# EAGLE library part LC4064ZE_XXUMN64 (library lattice_ispMACH4000ZE)
ispMACH 4064ZE ucBGA64 Lattice Semiconductor Corporation - ispMACH 4000ZE Ultra Low Power, Low Cost CPLD Family Generated using Lattice BSDL models: http://www.latticesemi.com/dynamic/index.cfm?fuseaction=view_documents&document_type=36&sloc=01-01-02-01&source=sidebar
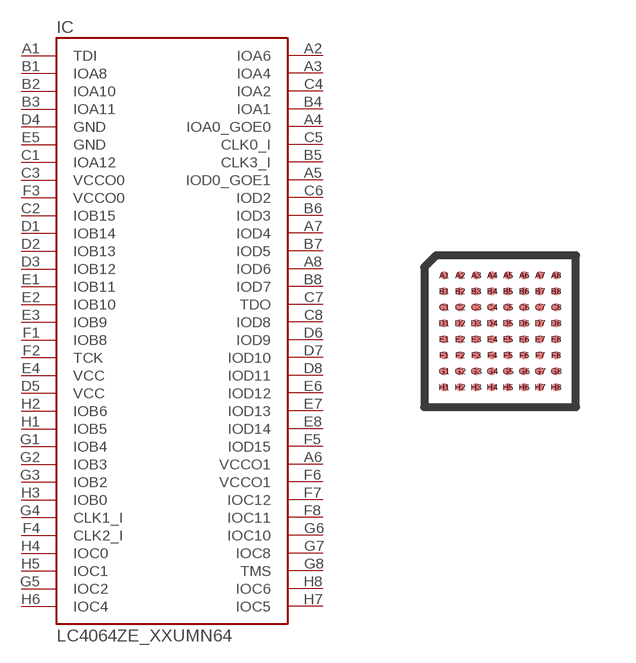
[diagram p12: symbol with the pads of UCBGA64; footprint UCBGA64]

Designator prefix IC

## LC4064ZE_XXUMN64  [UCBGA64]
A1  TDI  in
A2  IOA6
A3  IOA4
A4  IOA0_GOE0
A5  IOD0_GOE1
A6  VCCO1  pwr
A7  IOD4
A8  IOD6
B1  IOA8
B2  IOA10
B3  IOA11
B4  IOA1
B5  CLK3_I  in
B6  IOD3
B7  IOD5
B8  IOD7
C1  IOA12
C2  IOB15
C3  VCCO0  pwr
C4  IOA2
C5  CLK0_I  in
C6  IOD2
C7  TDO  out
C8  IOD8
D1  IOB14
D2  IOB13
D3  IOB12
D4  GND  pwr
D5  VCC  pwr
D6  IOD9
D7  IOD10
D8  IOD11
E1  IOB11
E2  IOB10
E3  IOB9
E4  VCC  pwr
E5  GND  pwr
E6  IOD12
E7  IOD13
E8  IOD14
F1  IOB8
F2  TCK  in
F3  VCCO0  pwr
F4  CLK2_I  in
F5  IOD15
F6  VCCO1  pwr
F7  IOC12
F8  IOC11
G1  IOB4
G2  IOB3
G3  IOB2
G4  CLK1_I  in
G5  IOC2
G6  IOC10
G7  IOC8
G8  TMS  in
H1  IOB5
H2  IOB6
H3  IOB0
H4  IOC0
H5  IOC1
H6  IOC4
H7  IOC5
H8  IOC6

## Footprint UCBGA64 (pad centres in mm)
usBGA - 64 http://www.latticesemi.com/lit/docs/package/pkg.pdf
smd 0.2 x 0.2: A1 -1.4,1.4; A2 -1,1.4; A3 -0.6,1.4; A4 -0.2,1.4; A5 0.2,1.4; A6 0.6,1.4; A7 1,1.4; A8 1.4,1.4; B1 -1.4,1; B2 -1,1; B3 -0.6,1; B4 -0.2,1; B5 0.2,1; B6 0.6,1; B7 1,1; B8 1.4,1; C1 -1.4,0.6; C2 -1,0.6; C3 -0.6,0.6; C4 -0.2,0.6; C5 0.2,0.6; C6 0.6,0.6; C7 1,0.6; C8 1.4,0.6; D1 -1.4,0.2; D2 -1,0.2; D3 -0.6,0.2; D4 -0.2,0.2; D5 0.2,0.2; D6 0.6,0.2; D7 1,0.2; D8 1.4,0.2; E1 -1.4,-0.2; E2 -1,-0.2; E3 -0.6,-0.2; E4 -0.2,-0.2; E5 0.2,-0.2; E6 0.6,-0.2; E7 1,-0.2; E8 1.4,-0.2; F1 -1.4,-0.6; F2 -1,-0.6; F3 -0.6,-0.6; F4 -0.2,-0.6; F5 0.2,-0.6; F6 0.6,-0.6; F7 1,-0.6; F8 1.4,-0.6; G1 -1.4,-1; G2 -1,-1; G3 -0.6,-1; G4 -0.2,-1; G5 0.2,-1; G6 0.6,-1; G7 1,-1; G8 1.4,-1; H1 -1.4,-1.4; H2 -1,-1.4; H3 -0.6,-1.4; H4 -0.2,-1.4; H5 0.2,-1.4; H6 0.6,-1.4; H7 1,-1.4; H8 1.4,-1.4